# Altium schematic symbol library CAP,Cer,1.8nF,10VDC,U2J,0402.Schlib: 1 symbol
Pins are listed as number, name and electrical type; pins without a type are passive.

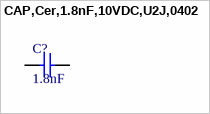
[diagram p0: symbol CAP,Cer,1.8nF,10VDC,U2J,0402]

## CAP,Cer,1.8nF,10VDC,U2J,0402
designator C?, comment 1.8nF
1800pF ±5% 10V Ceramic Capacitor U2J 0402 (1005 Metric)
pins: 1, 2